# Altium footprint library TRANS_BC547A.PcbLib: 1 footprints
Each footprint in its own frame and in the unit in brackets; x right, y up, seen from the top. Pads: shape width x height; smd on the part's side, far side on the other; paste and mask are expansions set on the pad; w line width, h text height; cw(c..) or ccw(c..) is an arc to the next point about the centre after c.
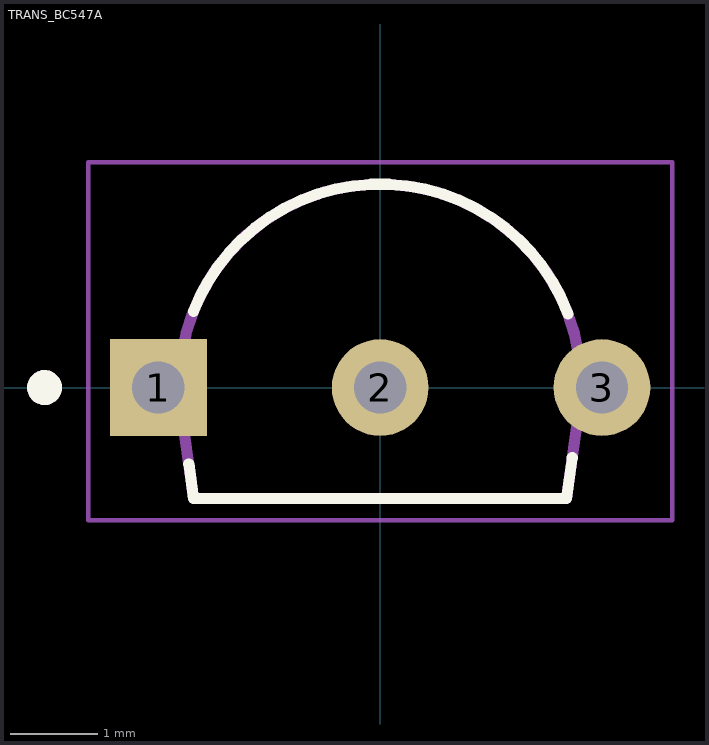
[diagram p0: the footprint, top view; thin cyan lines are the x and y axes]

## TRANS_BC547A [mm]
pads (3):
  rect 1.108x1.108 / inner round 1.108 / far side rect 1.108x1.108 hole 0.6 mask+0.102: 1(-2.54,0)
  round 1.108 hole 0.6 mask+0.102: 2(0,0) 3(2.54,0)
Top Overlay:
  circle w0.2: c-3.844,0 r0.1
  lines w0.127: -2.192,-0.874 -2.137,-1.27 2.134,-1.27 2.2,-0.805 ; -2.138,0.874 -2.07,1.032 -1.972,1.213 -1.859,1.385 -1.73,1.546 -1.587,1.694 -1.432,1.83 -1.265,1.951 -1.088,2.056 -0.903,2.146 -0.71,2.218 -0.511,2.273 -0.308,2.309 -0.103,2.328 0.103,2.328 0.308,2.309 0.511,2.273 0.71,2.218 0.903,2.146 1.088,2.056 1.265,1.951 1.432,1.83 1.587,1.694 1.73,1.546 1.859,1.385 1.972,1.213 2.07,1.032 2.152,0.842
Assembly Top:
  circle w0.2: c-3.844,0 r0.1
  lines w0.127: -2.291,-0.17 cw(c0,0.03) 2.291,-0.17 2.289,-0.17 2.134,-1.27 -2.137,-1.27 -2.291,-0.17
Courtyard Top:
  lines w0.05: -3.344,-1.52 3.344,-1.52 3.344,2.58 -3.344,2.58 -3.344,-1.52
3D body "step_temp.STEP": height 2.3, standoff -1.3, extent -2.74,-4.6 2.74,12.5